# Altium schematic symbol library SDCard-SIMCard.SchLib: 5 symbols
Pins are listed as number, name and electrical type; pins without a type are passive.

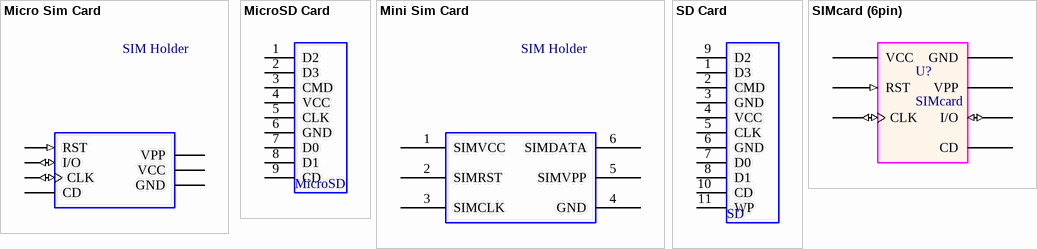
[diagram p0: symbols Micro Sim Card to SIMcard (6pin)]

## Micro Sim Card
designator SIM Holder
SIMCARD 6PIN
footprint Micro Sim Card (SI32C-01203-6Pin)
pins: C1 VCC (power), C2 RST (in), C3 CLK (io), C5 GND (power), C6 VPP (power), C7 I/O (io), CD

## MicroSD Card
designator MicroSD
MicroSD
footprint micro SD Card 2 (Footprint not found)
footprint micro SD Card
pins: 1 D2, 2 D3, 3 CMD, 4 VCC, 5 CLK, 6 GND, 7 D0, 8 D1, 9 CD

## Mini Sim Card
designator SIM Holder
SIMCARD 6PIN
footprint Mini Sim Card (6Pin)
pins: 1 SIMVCC, 2 SIMRST, 3 SIMCLK, 4 GND, 5 SIMVPP, 6 SIMDATA

## SD Card
designator SD
SD
footprint Full SD Card
pins: 1 D3, 2 CMD, 3 GND, 4 VCC, 5 CLK, 6 GND, 7 D0, 8 D1, 9 D2, 10 CD, 11 WP

## SIMcard (6pin)
designator U?, comment SIMcard
footprint SIMcard_6pin_1
pins: C1 VCC (power), C2 RST (in), C3 CLK (io), C5 GND (power), C6 VPP (power), C7 I/O (io), CD